# Altium footprint library baseLibPcb.PcbLib: 40 footprints (part 2 of 3)
Each footprint in its own frame and in the unit in brackets; x right, y up, seen from the top. Pads: shape width x height; smd on the part's side, far side on the other; paste and mask are expansions set on the pad; w line width, h text height; cw(c..) or ccw(c..) is an arc to the next point about the centre after c.
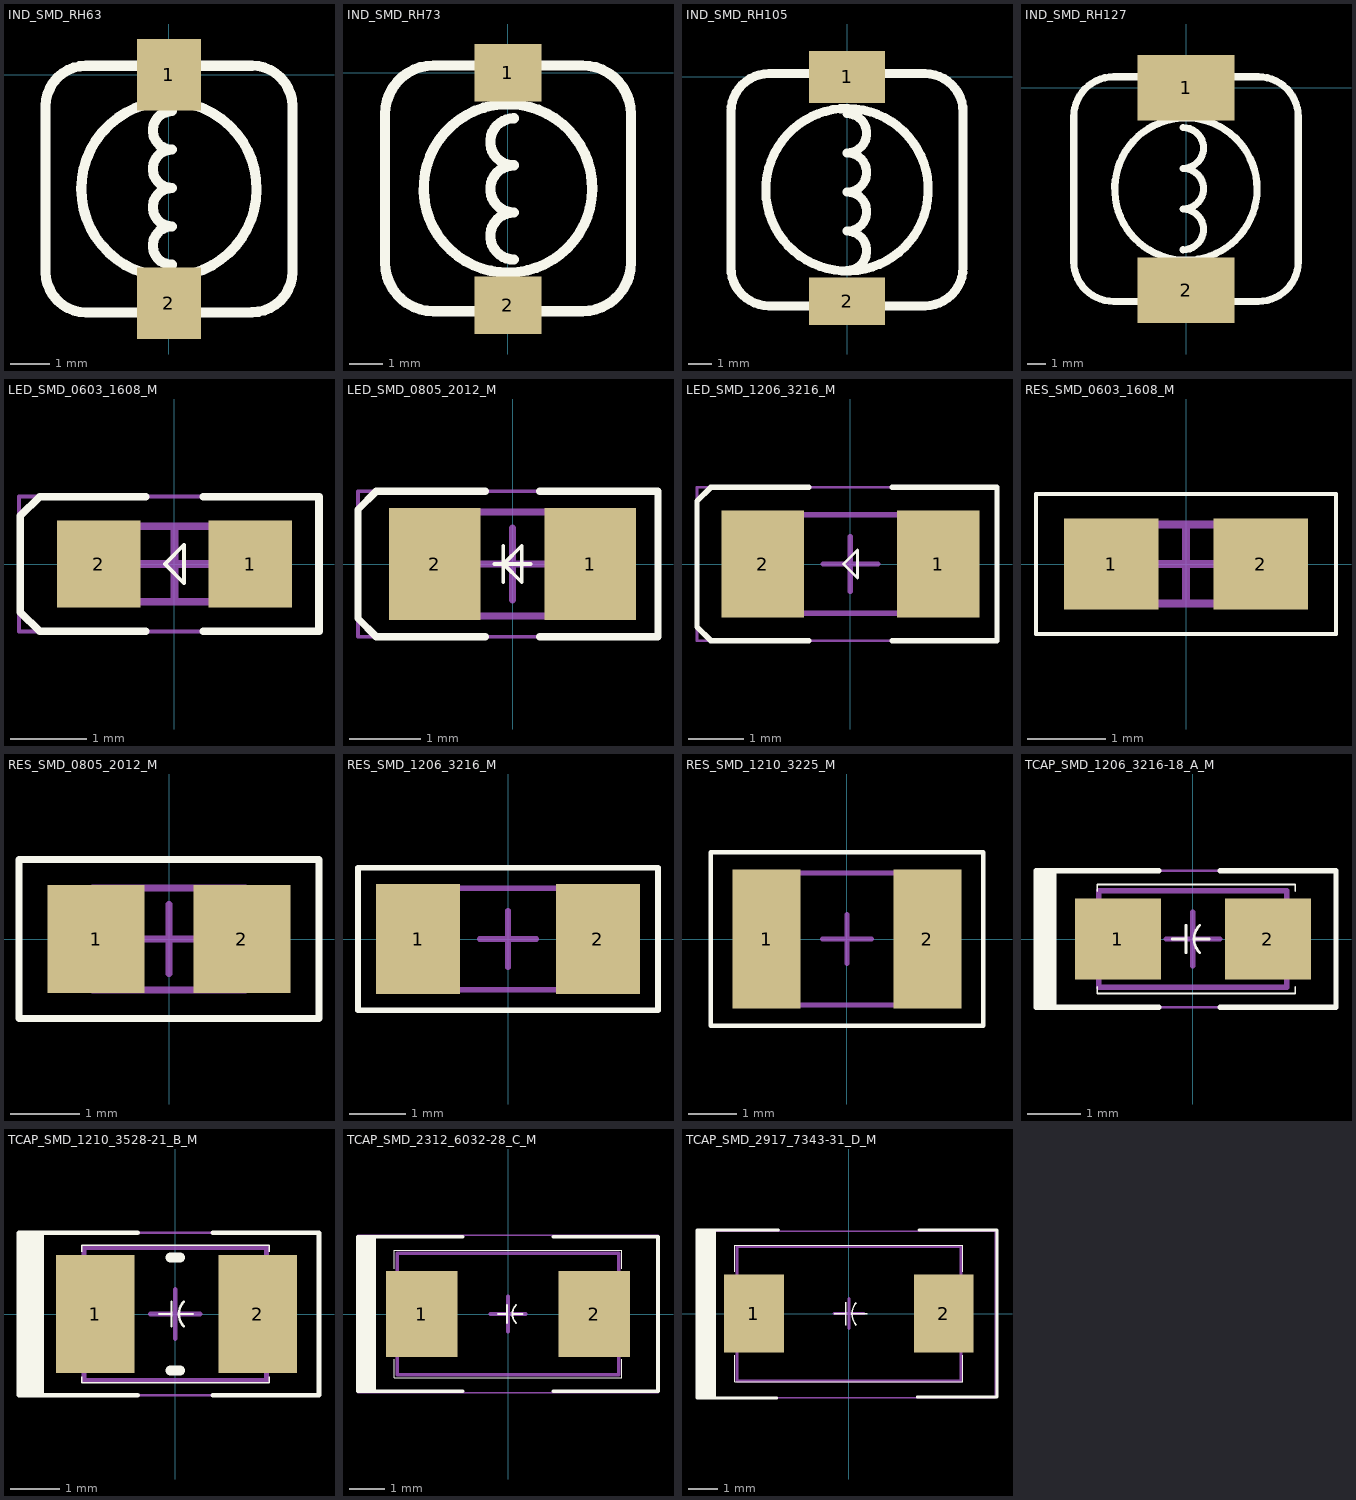
[diagram p1: the footprints below, top view; thin cyan lines are the x and y axes]

## IND_SMD_RH63 [mm]
pads (2):
  rect 1.6x1.8 smd: 1(0,0) 2(0,-5.74)
Top Overlay:
  lines w0.254: -1.688,-1.453 ccw(c0,-2.87) -1.668,-1.43 ; 0.076,-4.775 cw(c0.076,-4.293) 0.076,-3.81 cw(c0.076,-3.327) 0.076,-2.845 cw(c0.076,-2.362) 0.076,-1.88 cw(c0.076,-1.397) 0.076,-0.914 ; 2.083,-5.971 -2.083,-5.971 cw(c-2.083,-4.955) -3.099,-4.955 -3.099,-0.787 cw(c-2.083,-0.787) -2.083,0.229 2.083,0.229 ; 2.085,-5.969 ccw(c2.085,-4.953) 3.101,-4.953 3.101,-0.785 ccw(c2.085,-0.785) 2.085,0.231

## IND_SMD_RH73 [mm]
pads (2):
  rect 2x1.7 smd: 1(0,0) 2(0,-6.904)
Top Overlay:
  lines w0.305: 0.176,-5.544 cw(c0.176,-4.845) 0.176,-4.147 cw(c0.176,-3.448) 0.176,-2.75 cw(c0.176,-2.052) 0.176,-1.353 ; 2.271,-2.39 ccw(c-0.001,-3.434) 2.276,-2.402 ; -3.649,-5.635 ccw(c-2.201,-5.635) -2.201,-7.083 2.203,-7.083 ccw(c2.203,-5.635) 3.651,-5.635 3.651,-1.231 ccw(c2.203,-1.231) 2.203,0.217 -2.201,0.217 ccw(c-2.201,-1.231) -3.649,-1.231 -3.649,-5.635

## IND_SMD_RH105 [mm]
pads (2):
  rect 3.2x2.2 smd: 1(0,0)
  rect 3.2x2 smd: 2(0,-9.456)
Top Overlay:
  lines w0.381: 0,-8.162 ccw(c0,-7.335) 0,-6.509 ccw(c0,-5.682) 0,-4.856 ccw(c0,-4.03) 0,-3.203 ccw(c0,-2.377) 0,-1.55 ; 3.109,-3.313 ccw(c0,-4.758) 3.112,-3.321 ; -4.898,-8.043 ccw(c-3.288,-8.044) -3.289,-9.654 3.284,-9.654 ccw(c3.285,-8.044) 4.895,-8.045 4.895,-1.472 ccw(c3.285,-1.471) 3.286,0.139 -3.286,0.139 ccw(c-3.288,-1.471) -4.898,-1.47 -4.898,-8.043

## IND_SMD_RH127 [mm]
pads (2):
  rect 5.2x3.5 smd: 1(0,0) 2(0,-10.83)
Top Overlay:
  lines w0.381: -0.157,-8.664 ccw(c-0.157,-7.576) -0.157,-6.488 ccw(c-0.157,-5.399) -0.157,-4.311 ccw(c-0.157,-3.222) -0.157,-2.134 ; 3.255,-3.462 ccw(c-0.006,-5.419) 3.263,-3.474 ; -6,-9.283 ccw(c-3.866,-9.285) -3.866,-11.419 3.863,-11.419 ccw(c3.865,-9.285) 5.999,-9.285 5.999,-1.556 ccw(c3.865,-1.554) 3.864,0.58 -3.864,0.58 ccw(c-3.866,-1.554) -6,-1.555 -6,-9.283

## LED_SMD_0603_1608_M [mm] "LED 2-Leads, Body 1.70x0.90mm, IPC Low Density"
height 0.6
pads (2):
  rect 1.1x1.15 smd: 1(1,0) 2(-1,0)
Top Overlay:
  lines w0.05: -0.127,0 0.127,0.254 0.127,-0.254 -0.127,0
  lines w0.1: -0.381,-0.889 -1.778,-0.889 -2.032,-0.635 -2.032,0.635 -1.778,0.889 -0.381,0.889 ; 0.381,-0.889 1.905,-0.889 1.905,0.889 0.381,0.889
Mechanical 13:
  lines w0.1: -0.9,-0.5 0.9,-0.5 0.9,0.5 -0.9,0.5 -0.9,-0.5
Mechanical 15:
  lines w0.05: -2.05,-0.889 1.905,-0.889 1.905,0.889 -2.05,0.889 -2.05,-0.889
  lines w0.1: -0.5,0 0.5,0 ; 0,-0.5 0,0.5
3D body: height 0.6, standoff 0, extent 0.6,-0.5 0.9,0.5
3D body: height 0.6, standoff 0, extent -0.9,-0.5 -0.6,0.5
3D body: height 0.6, standoff 0, extent -0.6,-0.5 0.6,0.5

## LED_SMD_0805_2012_M [mm] "LED 2-Leads, Body 2.00x1.35mm, IPC Low Density"
height 0.8
pads (2):
  rect 1.28x1.57 smd: 1(1.085,0) 2(-1.085,0)
Top Overlay:
  lines w0.05: -0.254,0 -0.127,0 ; -0.127,-0.254 -0.127,0.254 ; 0.254,0 -0.127,0 ; -0.127,0 0.127,0.254 0.127,-0.254 -0.127,0
  lines w0.1: -0.381,-1.016 -1.905,-1.016 -2.159,-0.762 -2.159,0.762 -1.905,1.016 -1.524,1.016 -0.381,1.016 ; 0.381,-1.016 2.032,-1.016 2.032,1.016 0.381,1.016
Mechanical 13:
  lines w0.1: -1.1,-0.725 -1.1,0.725 1.1,0.725 1.1,-0.725 -1.1,-0.725
Mechanical 15:
  lines w0.05: -2.159,-1.016 -2.159,1.016 2.032,1.016 2.032,-1.016 -2.159,-1.016
  lines w0.1: -0.5,0 0.5,0 ; 0,-0.5 0,0.5
3D body: height 0.8, standoff 0, extent -0.6,-0.725 0.6,0.725
3D body: height 0.8, standoff 0, extent -1.1,-0.725 -0.6,0.725
3D body: height 0.8, standoff 0, extent 0.6,-0.725 1.1,0.725

## LED_SMD_1206_3216_M [mm] "LED, 2-Leads, Body 3.30x1.70mm, IPC Low Density"
height 0.8
pads (2):
  rect 1.5x1.95 smd: 1(1.6,0) 2(-1.6,0)
Top Overlay:
  lines w0.05: -2.794,1.143 -2.54,1.397 -2.413,1.397 ; -0.127,0 0.127,0.254 0.127,-0.254 -0.127,0
  lines w0.1: -0.762,-1.397 -2.54,-1.397 -2.794,-1.143 -2.794,1.143 -2.54,1.397 -2.413,1.397 -0.762,1.397 ; 0.762,-1.397 2.667,-1.397 2.667,1.397 0.762,1.397
Mechanical 13:
  lines w0.1: -1.7,-0.9 1.7,-0.9 1.7,0.9 -1.7,0.9 -1.7,-0.9
Mechanical 15:
  lines w0.05: -2.794,-1.397 2.667,-1.397 2.667,1.397 -2.794,1.397 -2.794,-1.397
  lines w0.1: -0.5,0 0.5,0 ; 0,-0.5 0,0.5
3D body: height 0.8, standoff 0, extent 1,-0.9 1.7,0.9
3D body: height 0.8, standoff 0, extent -1.7,-0.9 -1,0.9
3D body: height 0.8, standoff 0, extent -1,-0.9 1,0.9

## ME2108A_SOT89-150P409X160-3N [mm]
height 1.6

## RES_SMD_0603_1608_M [mm] "Chip Resistor, 2-Leads, Body 1.70x0.90mm, IPC Low Density"
height 0.89
pads (2):
  rect 1.2x1.15 smd: 1(-0.95,0) 2(0.95,0)
Top Overlay:
  lines w0.05: -1.905,-0.889 -1.905,0.889 1.905,0.889 1.905,-0.889 -1.905,-0.889
Mechanical 13:
  lines w0.1: -0.9,-0.5 0.9,-0.5 0.9,0.5 -0.9,0.5 -0.9,-0.5
Mechanical 15:
  lines w0.05: -1.905,-0.889 1.905,-0.889 1.905,0.889 -1.905,0.889 -1.905,-0.889
  lines w0.1: -0.5,0 0.5,0 ; 0,-0.5 0,0.5
3D body: height 0.89, standoff 0, extent 0.55,-0.5 0.9,0.5
3D body: height 0.89, standoff 0, extent -0.9,-0.5 -0.55,0.5
3D body: height 0.89, standoff 0, extent -0.55,-0.5 0.55,0.5

## RES_SMD_0805_2012_M [mm] "Chip Resistor, 2-Leads, Body 2.10x1.37mm, IPC Low Density"
height 0.8
pads (2):
  rect 1.4x1.55 smd: 1(-1.05,0) 2(1.05,0)
Top Overlay:
  lines w0.1: -2.159,-1.143 2.159,-1.143 2.159,1.143 1.079,1.143 -1.079,1.143 -2.159,1.143 -2.159,-1.143
Mechanical 13:
  lines w0.1: -1.1,-0.735 -1.1,0.735 1.1,0.735 1.1,-0.735 -1.1,-0.735
Mechanical 15:
  lines w0.05: -2.159,-1.143 -2.159,1.143 2.159,1.143 2.159,-1.143 -2.159,-1.143
  lines w0.1: -0.5,0 0.5,0 ; 0,-0.5 0,0.5
3D body: height 0.8, standoff 0, extent -0.6,-0.735 0.6,0.735
3D body: height 0.8, standoff 0, extent -1.1,-0.735 -0.6,0.735
3D body: height 0.8, standoff 0, extent 0.6,-0.735 1.1,0.735

## RES_SMD_1206_3216_M [mm] "Chip Resistor, 2-Leads, Body 3.30x1.70mm, IPC Low Density"
height 1.4
pads (2):
  rect 1.5x1.95 smd: 1(-1.6,0) 2(1.6,0)
Top Overlay:
  lines w0.1: -2.667,-1.27 2.667,-1.27 2.667,1.27 -2.667,1.27 -2.667,-1.27
Mechanical 13:
  lines w0.1: -1.7,-0.9 -1.7,0.9 1.7,0.9 1.7,-0.9 -1.7,-0.9
Mechanical 15:
  lines w0.05: -2.667,-1.27 -2.667,1.27 2.667,1.27 2.667,-1.27 -2.667,-1.27
  lines w0.1: -0.5,0 0.5,0 ; 0,-0.5 0,0.5
3D body: height 1.4, standoff 0, extent -1.1,-0.9 1.1,0.9
3D body: height 1.4, standoff 0, extent -1.7,-0.9 -1.1,0.9
3D body: height 1.4, standoff 0, extent 1.1,-0.9 1.7,0.9

## RES_SMD_1210_3225_M [mm] "Chip Resistor, 2-Leads, Body 3.30x2.60mm, IPC Low Density"
height 0.56
pads (2):
  rect 1.4x2.85 smd: 1(-1.65,0) 2(1.65,0)
Top Overlay:
  lines w0.1: -2.794,-1.778 2.794,-1.778 2.794,1.778 -2.794,1.778 -2.794,-1.778
Mechanical 13:
  lines w0.1: -1.7,-1.35 -1.7,1.35 1.7,1.35 1.7,-1.35 -1.7,-1.35
Mechanical 15:
  lines w0.05: -2.794,-1.778 -2.794,1.778 2.794,1.778 2.794,-1.778 -2.794,-1.778
  lines w0.1: -0.5,0 0.5,0 ; 0,-0.5 0,0.5
3D body: height 0.56, standoff 0, extent -1.1,-1.35 1.1,1.35
3D body: height 0.56, standoff 0, extent -1.7,-1.35 -1.1,1.35
3D body: height 0.56, standoff 0, extent 1.1,-1.35 1.7,1.35

## TCAP_SMD_1206_3216-18_A_M [mm] "Tantalum Capacitor, 2-Leads, Body 3.25x1.70mm, IPC Low Density"
height 1.8
pads (2):
  rect 1.6x1.5 smd: 1(-1.397,0) 2(1.397,0)
Top Overlay:
  rectangle: -2.921,-1.27 -2.54,1.27
  lines w0.03: -1.778,-0.889 -1.778,-1.016 1.905,-1.016 1.905,-0.889 ; -1.778,0.889 -1.778,1.016 1.905,1.016 1.905,0.889
  lines w0.05: -0.381,0 -0.127,0 ; -0.127,-0.254 -0.127,0.254 ; 0.025,0 0.305,0 ; 0.127,-0.254 cw(c0.381,0) 0.127,0.254
  lines w0.1: -0.635,-1.27 -2.921,-1.27 -2.921,1.27 -0.635,1.27 ; 0.508,-1.27 2.667,-1.27 2.667,1.27 0.508,1.27
Mechanical 13:
  lines w0.1: -1.75,-0.9 1.75,-0.9 1.75,0.9 -1.75,0.9 -1.75,-0.9
Mechanical 15:
  lines w0.05: -2.921,-1.27 2.667,-1.27 2.667,1.27 -2.921,1.27 -2.921,-1.27
  lines w0.1: -0.5,0 0.5,0 ; 0,-0.5 0,0.5
3D body: height 1.8, standoff 0, extent 0.95,-0.9 1.75,0.9
3D body: height 1.8, standoff 0, extent -1.75,-0.9 -0.95,0.9
3D body: height 1.8, standoff 0, extent -0.95,-0.9 0.95,0.9

## TCAP_SMD_1210_3528-21_B_M [mm] "Tantalum Capacitor, 2-Leads, Body 3.50x2.85mm, IPC Low Density"
height 2
pads (2):
  rect 1.6x2.4 smd: 1(-1.626,0) 2(1.676,0)
Top Overlay:
  rectangle: -3.175,-1.651 -2.667,1.651
  lines w0.03: -1.905,-1.27 -1.905,-1.397 1.905,-1.397 1.905,-1.27 ; -1.905,1.27 -1.905,1.397 1.905,1.397 1.905,1.27
  lines w0.05: -0.33,0 -0.076,0 ; -0.076,-0.254 -0.076,0.254 ; 0.076,0 0.356,0 ; 0.178,-0.254 cw(c0.432,0) 0.178,0.254
  lines w0.1: -0.762,-1.651 -3.175,-1.651 -3.175,1.651 -0.762,1.651 ; 0.762,-1.651 2.921,-1.651 2.921,1.651 0.762,1.651
  lines w0.2: -0.1,-1.15 0.1,-1.15 ; -0.1,1.15 0.1,1.15
Mechanical 13:
  lines w0.1: -1.85,-1.35 -1.85,1.35 1.85,1.35 1.85,-1.35 -1.85,-1.35
Mechanical 15:
  lines w0.05: -3.175,-1.651 -3.175,1.651 2.921,1.651 2.921,-1.651 -3.175,-1.651
  lines w0.1: -0.5,0 0.5,0 ; 0,-0.5 0,0.5
3D body: height 2, standoff 0, extent -1,-1.35 1,1.35
3D body: height 2, standoff 0, extent -1.85,-1.35 -1,1.35
3D body: height 2, standoff 0, extent 1,-1.35 1.85,1.35

## TCAP_SMD_2312_6032-28_C_M [mm] "Chip Capacitor, 2-Leads, Body 6.00x3.20mm, IPC Low Density"
height 2.8
pads (2):
  rect 2x2.4 smd: 1(-2.413,0) 2(2.413,0)
Top Overlay:
  rectangle: -4.191,-2.159 -3.683,2.159
  lines w0.03: -3.175,-1.27 -3.175,-1.778 3.175,-1.778 3.175,-1.27 ; -3.175,1.27 -3.175,1.778 3.175,1.778 3.175,1.27
  lines w0.05: -0.279,0 -0.025,0 ; -0.025,-0.254 -0.025,0.254 ; 0.127,0 0.406,0 ; 0.229,-0.254 cw(c0.483,0) 0.229,0.254
  lines w0.1: -1.27,-2.159 -4.191,-2.159 -4.191,2.159 -1.27,2.159 ; 1.27,-2.159 4.191,-2.159 4.191,2.159 1.27,2.159
Mechanical 13:
  lines w0.1: -3.1,-1.7 3.1,-1.7 3.1,1.7 -3.1,1.7 -3.1,-1.7
Mechanical 15:
  lines w0.05: -4.191,-2.2 4.191,-2.2 4.191,2.2 -4.191,2.2 -4.191,-2.2
  lines w0.1: -0.5,0 0.5,0 ; 0,-0.5 0,0.5
3D body: height 2.8, standoff 0, extent 1.75,-1.7 3.1,1.7
3D body: height 2.8, standoff 0, extent -3.1,-1.7 -1.75,1.7
3D body: height 2.8, standoff 0, extent -1.75,-1.7 1.75,1.7

## TCAP_SMD_2917_7343-31_D_M [mm] "Tantalum Capacitor, 2-Leads, Body 7.30x4.35mm, IPC Low Density"
height 3.1
pads (2):
  rect 2x2.6 smd: 1(-3.175,0) 2(3.175,0)
Top Overlay:
  rectangle: -5.08,-2.819 -4.445,2.794
  lines w0.03: -3.81,-1.397 -3.81,-2.286 3.81,-2.286 3.81,-1.397 ; -3.81,1.397 -3.81,2.286 3.81,2.286 3.81,1.397
  lines w0.05: -0.483,0 -0.102,0 ; -0.102,-0.381 -0.102,0.381 ; 0.127,0 0.61,0 ; 0.254,-0.381 cw(c0.629,-0.006) 0.254,0.369
  lines w0.1: -2.413,-2.819 -5.08,-2.819 -5.08,2.794 -2.362,2.794 ; 2.286,-2.794 4.953,-2.794 4.953,2.794 2.337,2.794
Mechanical 13:
  lines w0.1: -3.75,-2.25 -3.75,2.25 3.75,2.25 3.75,-2.25 -3.75,-2.25
Mechanical 15:
  lines w0.05: -4.9,-2.819 -4.9,2.75 4.9,2.75 4.9,-2.819 -4.9,-2.819
  lines w0.1: -0.5,0 0.5,0 ; 0,-0.5 0,0.5
3D body: height 3.1, standoff 0, extent -2.4,-2.25 2.4,2.25
3D body: height 3.1, standoff 0, extent -3.75,-2.25 -2.4,2.25
3D body: height 3.1, standoff 0, extent 2.4,-2.25 3.75,2.25